# Altium schematic symbol library Q's常用电子元件.SchLib: 34 symbols
Pins are listed as number, name and electrical type; pins without a type are passive.

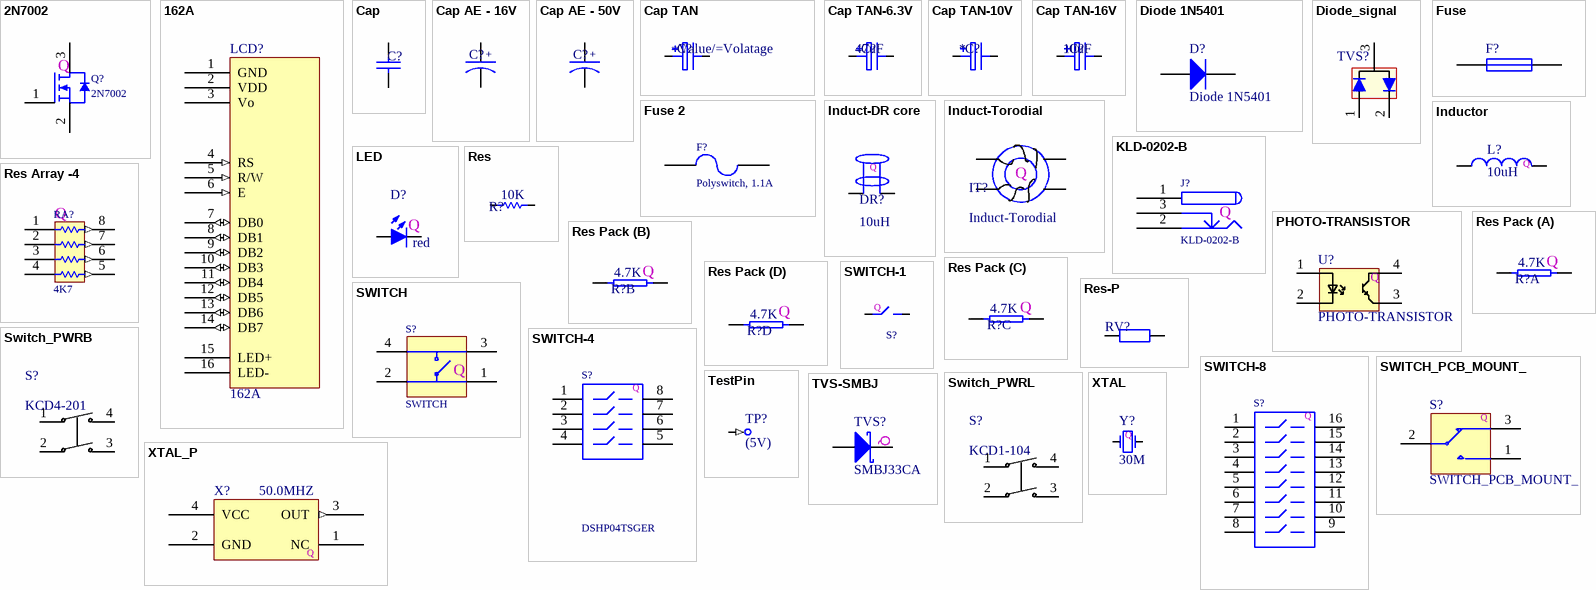
[diagram p0: symbols 2N7002 to XTAL_P]

## 2N7002
designator Q?
N Channel Mosfet
footprint Model Name (Model Description)
footprint SO-G3
3D model sot23-3 (PCB3D Model)
pins: 1 "Gate", 2 "Source", 3 "Drain"
text: Q

## 162A
designator LCD?
16 char * 2 line LCD character display with b/light
footprint 162A
3D model 162a (PCB3D Model)
pins: 1 GND (power) "VSS - 0V", 2 VDD (power) "VDD - 5V", 3 Vo (hiz) "Input Voltage For LCD", 4 RS (in) "H = Data Signal, L = Instrunction Signal", 5 R/W (in) "H = Read Mode, L = Write Mode", 6 E (in) "Chip Enable (H, H->L)", 7 DB0 (io) "Chip Enable (H, H->L)", 8 DB1 (io) "Chip Enable (H, H->L)", 9 DB2 (io) "Chip Enable (H, H->L)", 10 DB3 (io) "Chip Enable (H, H->L)", 11 DB4 (io) "Chip Enable (H, H->L)", 12 DB5 (io) "Chip Enable (H, H->L)", 13 DB6 (io) "Chip Enable (H, H->L)", 14 DB7 (io) "Chip Enable (H, H->L)", 15 LED+ (power) "LED Backlight +", 16 LED- (power) "LED Backlight -"

## Cap
designator C?
贴片瓷片电容; value: 0.1uF; Published: 8-Jun-2000; LatestRevisionDate: 17-Jul-2002; LatestRevisionNote: Re-released for DXP Platform.; PackageReference: 0603; Publisher: QUENTIN; PackageDescription: 0603贴片封装
simulation model CAP (Capacitor)
signal-integrity model Cap
footprint 0603 - Q
footprint 6-0805_N (Chip Resistor, Body 2.0x1.37mm, IPC Medium Density)
pins: 1, 2

## Cap AE - 16V
designator C?, comment 10uF  (value not drawn)
贴片铝电解电容16V; M6.3: 100uF; M5: 22uF，47uF; Published: 8-Jun-2000; LatestRevisionNote: Re-released for DXP Platform.; Publisher: QUENTIN; M4: 10uF; value: 10uF
simulation model CAP (Capacitor)
signal-integrity model Cap Pol
footprint SMD-EC-F3
footprint SMD-EC-F4
footprint SMD-EC-F5
footprint SMD-EC-F6.3
footprint SMD-EC-F8
footprint SMD-EC-F10
footprint SMD-EC-F12.5
footprint SMD-EC-F16
pins: 1, 2
1 alternate drawing of the same symbol
text: +

## Cap AE - 50V
designator C?, comment 10uF  (value not drawn)
贴片铝电解电容50V; M6.3: 47uF; M4: 0.1uF，0.22uF，4.7uF; M10: 220uF; Published: 8-Jun-2000; LatestRevisionDate: 17-Jul-2002; LatestRevisionNote: Re-released for DXP Platform.; PackageReference: C0805; Publisher: QUENTIN; M5: 10uF; value: 10uF
simulation model CAP (Capacitor)
signal-integrity model Cap Pol
footprint SMD-EC-F3
footprint SMD-EC-F4
footprint SMD-EC-F5
footprint SMD-EC-F6.3
footprint SMD-EC-F8
footprint SMD-EC-F10
footprint SMD-EC-F12.5
footprint SMD-EC-F16
pins: 1, 2
1 alternate drawing of the same symbol
text: +

## Cap TAN
designator C?
钽电容; Value: 22uF; Volatage: 10V; Published: 8-Jun-2000; LatestRevisionDate: 17-Jul-2002; LatestRevisionNote: Re-released for DXP Platform.; PackageReference: RB7.6-15; Publisher: QUENTIN
simulation model CAP (Capacitor)
signal-integrity model Cap Pol
pins: 1, 2 E
1 alternate drawing of the same symbol

## Cap TAN-6.3V
designator C?, comment 47uF
L/J ，钽电容6.3V; Published: 8-Jun-2000; LatestRevisionDate: 17-Jul-2002; LatestRevisionNote: Re-released for DXP Platform.; Publisher: QUENTIN; 1206: 47uF; value: 47uF
simulation model CAP (Capacitor)
signal-integrity model Cap Pol
pins: 1, 2 E
1 alternate drawing of the same symbol

## Cap TAN-10V
designator C?
A，钽电容10V; 1210: 100uF; Published: 8-Jun-2000; LatestRevisionDate: 17-Jul-2002; LatestRevisionNote: Re-released for DXP Platform.; Publisher: QUENTIN; value: *
simulation model CAP (Capacitor)
signal-integrity model Cap Pol
pins: 1, 2 E
1 alternate drawing of the same symbol

## Cap TAN-16V
designator C?, comment 10uF
C，钽电容16V; 1206: 4,7uF, 47uF,; LatestRevisionDate: 17-Jul-2002; LatestRevisionNote: Re-released for DXP Platform.; Publisher: QUENTIN; 1210: 10uF; value: 10uF
simulation model CAP (Capacitor)
signal-integrity model Cap Pol
footprint C1206 (钽电容封装，Body3.2mm*1.6mm)
footprint C1210 (钽电容封装，Body3.2mm*2.5mm)
pins: 1, 2 E
1 alternate drawing of the same symbol

## Diode 1N5401
designator D?
3 Amp General Purpose Rectifier; Published: 8-Jun-2000; LatestRevisionDate: 17-Jul-2002; LatestRevisionNote: Re-released for DXP Platform.; DatasheetVersion: 1998; PackageVersion: Aug-1999; PackageReference: DO-201AD; Publisher: Altium Limited; PackageDescription: Diode, Axial; Body 9.5 x 5.6 mm (LxDia. max), Lead Dia. 1.32 mm (max); ComponentLink1Description: Manufacturer Link; ComponentLink1URL: http://www.fairchildsemi.com/; ComponentLink2Description: Datasheet; ComponentLink2URL: http://www.fairchildsemi.com/ds/1N%2F1N5400.pdf
footprint DO-201AD (Diode, Axial; Body 9.5 x 5.6 mm (LxDia. max), Lead Dia. 1.32 mm (max))
simulation model 1N5401 (DIODE)
signal-integrity model 1N5401
pins: 1 A, 2 K

## Diode_signal
designator TVS?, comment MMBD4148SE  (value not drawn)
footprint SOT-23-TT3_N (SOT23, 3-Leads, Body 2.9x1.3mm, Pitch 0.95mm, Lead Span 2.4mm, IPC Medium Density)
pins: 1, 2, 3

## Fuse
designator F?, comment 3A  (value not drawn)
保险丝; Published: 8-Jun-2000; LatestRevisionDate: 17-Jul-2002; LatestRevisionNote: Re-released for DXP Platform.; PackageReference: PIN-W2/E2.8; Publisher: Altium Limited; PackageDescription: Thru-Hole; 2 Leads; Value: 3A
footprint 1808 (保险丝座1808, Body 9.73x5.03mm, IPC Medium Density)
simulation model FUSE (Spice Subcircuit)
pins: 1, 2

## Fuse 2
designator F?, comment Polyswitch, 1.1A
Polyswitch 1.1A, Raychem RUE110; Revision: July-2002: Re-released for DXP Platform.; Supplier: FARNELL; Supplier Code: 608-907
footprint PIN-W2/E2.8 (Fuse; 2 Leads)
simulation model FUSE (Spice Subcircuit)
footprint RUE160_0.2
3D model PolySwitch2 (PCB3D Model)
pins: 1, 2

## Induct-DR core
designator DR?, comment 10uH
工型电感; Code_IEC: 1005; Published: 8-Jun-2000; LatestRevisionDate: 17-Jul-2002; LatestRevisionNote: Re-released for DXP Platform.; PackageReference: 0402-A; Publisher: Altium Limited; Code_JEITA: 0402
footprint RB5-10.5
pins: 1, 2
2 alternate drawings of the same symbol
text: Q

## Induct-Torodial
designator IT?
共模环形电感
footprint ToroiIduct (环形电感封装)
pins: 1 IN, 2, 3, 4
text: Q

## Inductor
designator L?, comment 10uH
贴片电感; Code_IEC: 1005; Published: 8-Jun-2000; LatestRevisionDate: 17-Jul-2002; LatestRevisionNote: Re-released for DXP Platform.; PackageReference: 0402-A; Publisher: Altium Limited; Code_JEITA: 0402
footprint 1206 (钽电容封装，Body3.2mm*1.6mm, 2.2uF,10uF,22uF)
footprint 0603 - Q
pins: 1, 2
2 alternate drawings of the same symbol
text: Q

## KLD-0202-B
designator J?
Low Voltage Power Supply Connector; Manufacturer: Kycon; AEMS Code: 3510211
footprint KLD-0202
3D model power_jack (PCB3D Model)
pins: 1 (power), 2 (power), 3 (power)
text: Q

## LED
designator D?, comment red
贴片LED; Published: 8-Jun-2000; LatestRevisionDate: 08-Jul-2005; LatestRevisionNote: Mech Layer 1 removed.; PackageReference: LED-0; Publisher: QUENTIN; PackageDescription: LED; 2 Leads; Value: red
simulation model LED0 (Diode)
footprint 0603 - LED
3D model LED (PCB3D Model)
pins: 1 A, 2 K
text: Q

## PHOTO-TRANSISTOR
designator U?
光耦隔离
footprint Mini-Flat - 4pin (光耦封装)
pins: 1 Anode, 2 Cathode, 3 Emitter, 4 Collector
text: Q

## Res
designator R?, comment 10K
Resistor; Published: 8-Jun-2000; LatestRevisionDate: 17-Jul-2002; LatestRevisionNote: Re-released for DXP Platform.; PackageReference: AXIAL-0.3; Publisher: Altium Limited; PackageDescription: Axial Device, Thru-Hole; 2 Leads; 0.3 in Pin Spacing; Vlaue: 10K
simulation model RESISTOR (Resistor)
signal-integrity model Res
footprint 0603 - Q
pins: 1, 2

## Res Array -4
designator RA?, comment 4K7
3216x4 Resistor Array; AEMS Code: 1300330
footprint 8P4R-0603
pins: 1, 2, 3, 4, 5 (out), 6 (out), 7 (out), 8 (out)
text: Q

## Res Pack
designator R?, comment 4.7K
Isolated Resistor Network - Parts; Sim Note: Enter the Resistance value into parameter field.; Published: 24-Mar-1999; LatestRevisionDate: 17-Jul-2002; LatestRevisionNote: Re-released for DXP Platform.; PackageReference: DIP-16; Publisher: Altium Limited; Code_JEDEC: MO-001-AC; Value: 4.7K
simulation model RESISTOR (Resistor)
signal-integrity model Res Pack
footprint 8P4R-0603
part A pins: 1, 8
part B pins: 2, 7
part C pins: 3, 6
part D pins: 4, 5
part A text: Q
part B text: Q
part C text: Q
part D text: Q

## Res-P
designator RV?, comment S14K35，07D390K  (value not drawn)
S14K35,压敏电阻。; Published: 8-Jun-2000; LatestRevisionDate: 17-Jul-2002; LatestRevisionNote: Re-released for DXP Platform.; PackageReference: AXIAL-0.4; Publisher: Altium Limited; PackageDescription: Axial Device, Thru-Hole; 2 Leads; 0.4 in Pin Spacing
footprint 2PIN-W10H5-L5R0.8 (2pins, Body宽10mm，高5mm，焊盘间距5mm，hole0.8mm)
pins: 1, 2

## SWITCH
designator S?
footprint B3FS_SWITCH
3D model SPNA (PCB3D Model)
pins: 1, 2, 3, 4
text: Q

## SWITCH-1
designator S?, comment 轻触开关 贴片2脚  (value not drawn)
按键 3*6*4.3MM 轻触开关 贴片2脚 白色; Revision: July-2002: Re-released for DXP Platform.
footprint SMD-SWITCH-2P
simulation model dpsw8 (Spice Subcircuit)
3D model SWITCH_DIP8 (PCB3D Model)
pins: 1, 2
text: Q

## SWITCH-4
designator S?, comment DSHP04TSGER
1.27mm 4路拨码开关  DSHP04TSGER 台湾KE; Revision: July-2002: Re-released for DXP Platform.
footprint SMD-8-KEY (SOIC, 8-Leads, Body 4.9x3.9mm, Pitch 1.27mm, IPC Medium Density)
simulation model dpsw8 (Spice Subcircuit)
3D model SWITCH_DIP8 (PCB3D Model)
pins: 1, 2, 3, 4, 5, 6, 7, 8
text: Q

## SWITCH-8
designator S?
Revision: July-2002: Re-released for DXP Platform.
footprint DIP-16-KEY
simulation model dpsw8 (Spice Subcircuit)
3D model SWITCH_DIP8 (PCB3D Model)
pins: 1, 2, 3, 4, 5, 6, 7, 8, 9, 10, 11, 12, 13, 14, 15, 16
text: Q

## SWITCH_PCB_MOUNT_
designator S?
SPDT Subminiature Toggle Switch; Supplier: FARNELL; Supplier Code: 150-559
footprint PCB_SWITCH
3D model SPST_Switch (PCB3D Model)
pins: 1, 2, 3
text: Q

## Switch_PWRB
designator S?, comment KCD4-201
大，KCD4船型开关
footprint KCD4-201 (4脚船型开关, 16A 250V)
pins: 1, 2, 3, 4

## Switch_PWRL
designator S?, comment KCD1-104
小，KCD4船型开关
footprint KCD1-104 (小，4脚2档带灯，6A 250V)
pins: 1, 2, 3, 4

## TestPin
designator TP?, comment (5V)  (no BOM)
footprint TestPin (SingleTest Pin)
footprint TP
footprint Test
pins: 1 (in)

## TVS-SMBJ
designator TVS?, comment SMBJ33CA
瞬态电压抑制器（TransientVoltageSuppressor）简称TVS管; SMBJ05CA: AD,AE; SMBJ15CA: BL,BM; SMBJ33CA: CL,CM; SMBJ30CA: CH,CK; SMBJ24CA: BY,BZ; Published: 21-Mar-2003; PackageVersion: Sep-2001
footprint SMB/DO-214AA (TVS封装)
pins: 1 A, 2 K
text: Q

## XTAL
designator Y?, comment 30M
无源晶振，4脚贴片封装(1,3PIN); Published: 8-Jun-2000; LatestRevisionDate: 17-Jul-2002; LatestRevisionNote: Re-released for DXP Platform.; PackageReference: R38; Publisher: Altium Limited
footprint 5032
footprint 7050
pins: 1 OSC1, 3 OSC2
text: Q

## XTAL_P
designator X?, comment 50.0MHZ
有源晶振，4脚贴片封装; 7050: 50Mhz; 5032: 30Mhz
footprint 7050
footprint 5032
pins: 1 NC, 2 GND, 3 OUT (out), 4 VCC
text: Q